# Altium schematic symbol library Xilinx.SchLib: 3 symbols
Pins are listed as number, name and electrical type; pins without a type are passive.

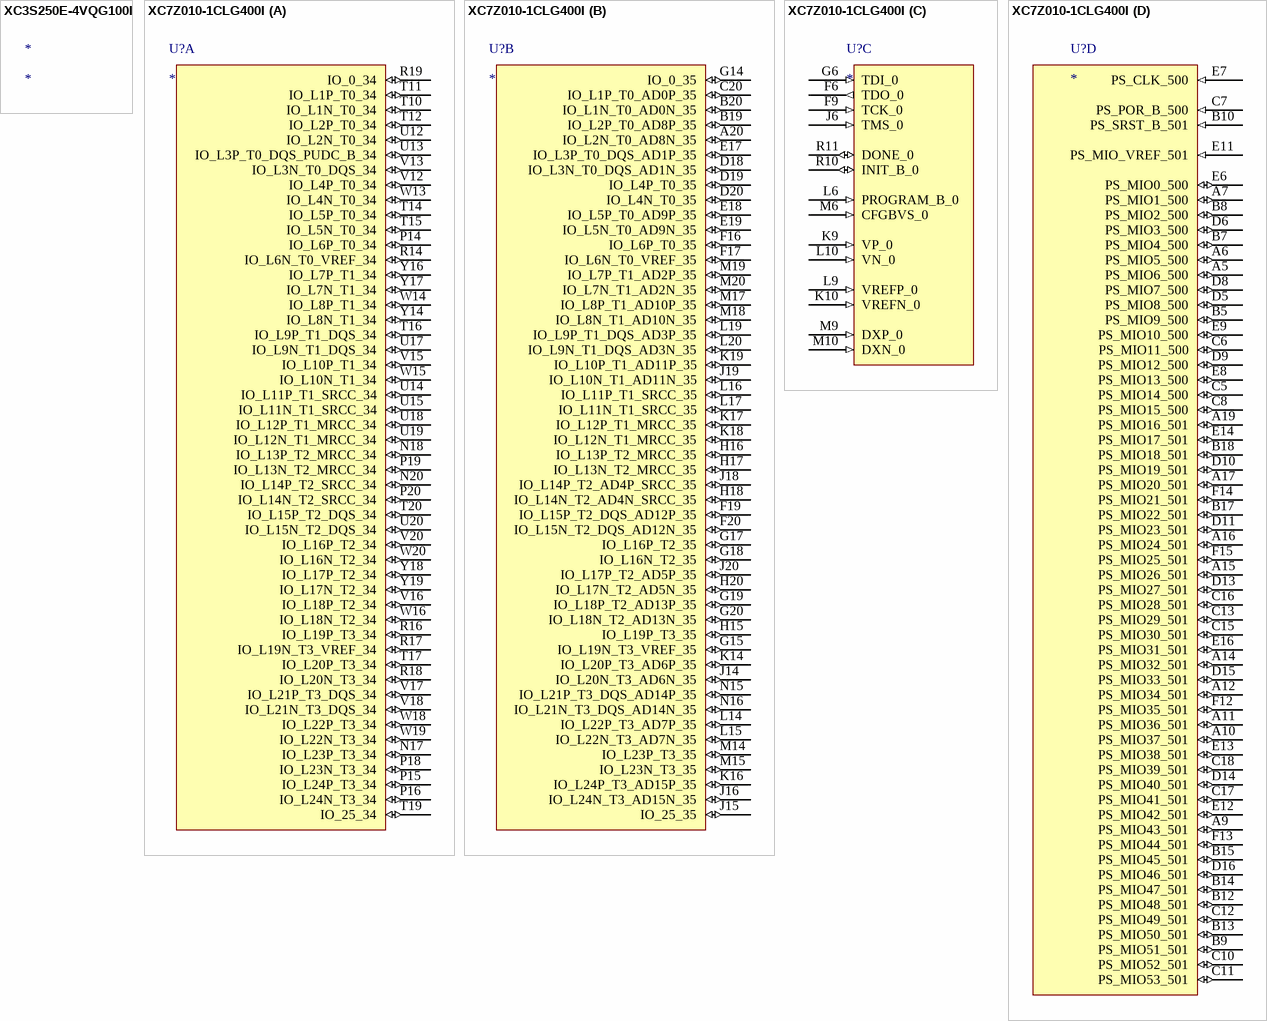
[diagram p0: symbols XC3S250E-4VQG100I to XC7Z010-1CLG400I]

## XC3S250E-4VQG100I
designator *

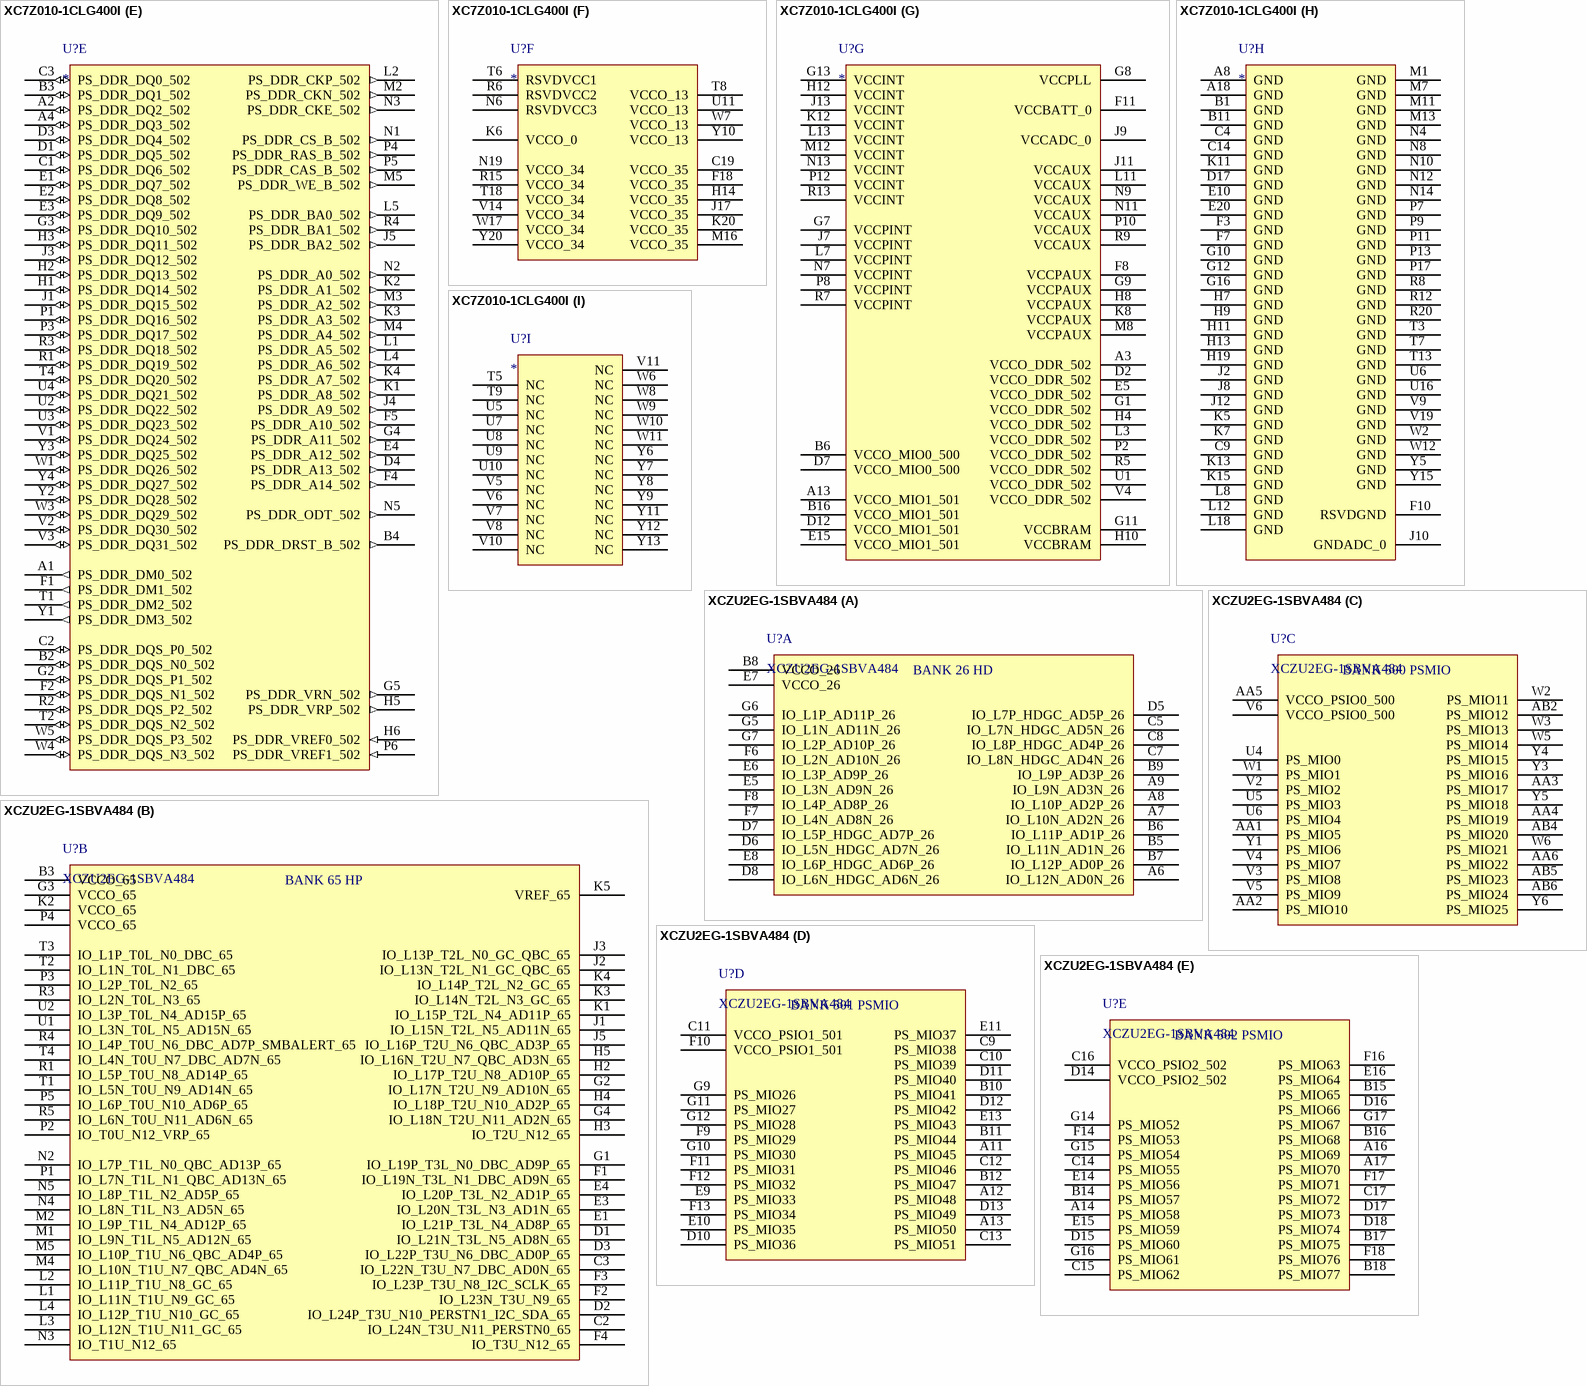
[diagram p1: symbols XC7Z010-1CLG400I to XCZU2EG-1SBVA484]

## XC7Z010-1CLG400I
designator U?
part A pins: N17 IO_L23P_T3_34 (io), N18 IO_L13P_T2_MRCC_34 (io), N20 IO_L14P_T2_SRCC_34 (io), P14 IO_L6P_T0_34 (io), P15 IO_L24P_T3_34 (io), P16 IO_L24N_T3_34 (io), P18 IO_L23N_T3_34 (io), P19 IO_L13N_T2_MRCC_34 (io), P20 IO_L14N_T2_SRCC_34 (io), R14 IO_L6N_T0_VREF_34 (io), R16 IO_L19P_T3_34 (io), R17 IO_L19N_T3_VREF_34 (io), R18 IO_L20N_T3_34 (io), R19 IO_0_34 (io), T10 IO_L1N_T0_34 (io), T11 IO_L1P_T0_34 (io), T12 IO_L2P_T0_34 (io), T14 IO_L5P_T0_34 (io), T15 IO_L5N_T0_34 (io), T16 IO_L9P_T1_DQS_34 (io), T17 IO_L20P_T3_34 (io), T19 IO_25_34 (io), T20 IO_L15P_T2_DQS_34 (io), U12 IO_L2N_T0_34 (io), U13 IO_L3P_T0_DQS_PUDC_B_34 (io), U14 IO_L11P_T1_SRCC_34 (io), U15 IO_L11N_T1_SRCC_34 (io), U17 IO_L9N_T1_DQS_34 (io), U18 IO_L12P_T1_MRCC_34 (io), U19 IO_L12N_T1_MRCC_34 (io), U20 IO_L15N_T2_DQS_34 (io), V12 IO_L4P_T0_34 (io), V13 IO_L3N_T0_DQS_34 (io), V15 IO_L10P_T1_34 (io), V16 IO_L18P_T2_34 (io), V17 IO_L21P_T3_DQS_34 (io), V18 IO_L21N_T3_DQS_34 (io), V20 IO_L16P_T2_34 (io), W13 IO_L4N_T0_34 (io), W14 IO_L8P_T1_34 (io), W15 IO_L10N_T1_34 (io), W16 IO_L18N_T2_34 (io), W18 IO_L22P_T3_34 (io), W19 IO_L22N_T3_34 (io), W20 IO_L16N_T2_34 (io), Y14 IO_L8N_T1_34 (io), Y16 IO_L7P_T1_34 (io), Y17 IO_L7N_T1_34 (io), Y18 IO_L17P_T2_34 (io), Y19 IO_L17N_T2_34 (io)
part B pins: A20 IO_L2N_T0_AD8N_35 (io), B19 IO_L2P_T0_AD8P_35 (io), B20 IO_L1N_T0_AD0N_35 (io), C20 IO_L1P_T0_AD0P_35 (io), D18 IO_L3N_T0_DQS_AD1N_35 (io), D19 IO_L4P_T0_35 (io), D20 IO_L4N_T0_35 (io), E17 IO_L3P_T0_DQS_AD1P_35 (io), E18 IO_L5P_T0_AD9P_35 (io), E19 IO_L5N_T0_AD9N_35 (io), F16 IO_L6P_T0_35 (io), F17 IO_L6N_T0_VREF_35 (io), F19 IO_L15P_T2_DQS_AD12P_35 (io), F20 IO_L15N_T2_DQS_AD12N_35 (io), G14 IO_0_35 (io), G15 IO_L19N_T3_VREF_35 (io), G17 IO_L16P_T2_35 (io), G18 IO_L16N_T2_35 (io), G19 IO_L18P_T2_AD13P_35 (io), G20 IO_L18N_T2_AD13N_35 (io), H15 IO_L19P_T3_35 (io), H16 IO_L13P_T2_MRCC_35 (io), H17 IO_L13N_T2_MRCC_35 (io), H18 IO_L14N_T2_AD4N_SRCC_35 (io), H20 IO_L17N_T2_AD5N_35 (io), J14 IO_L20N_T3_AD6N_35 (io), J15 IO_25_35 (io), J16 IO_L24N_T3_AD15N_35 (io), J18 IO_L14P_T2_AD4P_SRCC_35 (io), J19 IO_L10N_T1_AD11N_35 (io), J20 IO_L17P_T2_AD5P_35 (io), K14 IO_L20P_T3_AD6P_35 (io), K16 IO_L24P_T3_AD15P_35 (io), K17 IO_L12P_T1_MRCC_35 (io), K18 IO_L12N_T1_MRCC_35 (io), K19 IO_L10P_T1_AD11P_35 (io), L14 IO_L22P_T3_AD7P_35 (io), L15 IO_L22N_T3_AD7N_35 (io), L16 IO_L11P_T1_SRCC_35 (io), L17 IO_L11N_T1_SRCC_35 (io), L19 IO_L9P_T1_DQS_AD3P_35 (io), L20 IO_L9N_T1_DQS_AD3N_35 (io), M14 IO_L23P_T3_35 (io), M15 IO_L23N_T3_35 (io), M17 IO_L8P_T1_AD10P_35 (io), M18 IO_L8N_T1_AD10N_35 (io), M19 IO_L7P_T1_AD2P_35 (io), M20 IO_L7N_T1_AD2N_35 (io), N15 IO_L21P_T3_DQS_AD14P_35 (io), N16 IO_L21N_T3_DQS_AD14N_35 (io)
part C pins: F6 TDO_0 (out), F9 TCK_0 (in), G6 TDI_0 (in), J6 TMS_0 (in), K9 VP_0 (in), K10 VREFN_0 (in), L6 PROGRAM_B_0 (in), L9 VREFP_0 (in), L10 VN_0 (in), M6 CFGBVS_0 (in), M9 DXP_0 (in), M10 DXN_0 (in), R10 INIT_B_0 (io), R11 DONE_0 (io)
part D pins: A5 PS_MIO6_500 (io), A6 PS_MIO5_500 (io), A7 PS_MIO1_500 (io), A9 PS_MIO43_501 (io), A10 PS_MIO37_501 (io), A11 PS_MIO36_501 (io), A12 PS_MIO34_501 (io), A14 PS_MIO32_501 (io), A15 PS_MIO26_501 (io), A16 PS_MIO24_501 (io), A17 PS_MIO20_501 (io), A19 PS_MIO16_501 (io), B5 PS_MIO9_500 (io), B7 PS_MIO4_500 (io), B8 PS_MIO2_500 (io), B9 PS_MIO51_501 (io), B10 PS_SRST_B_501 (in), B12 PS_MIO48_501 (io), B13 PS_MIO50_501 (io), B14 PS_MIO47_501 (io), B15 PS_MIO45_501 (io), B17 PS_MIO22_501 (io), B18 PS_MIO18_501 (io), C5 PS_MIO14_500 (io), C6 PS_MIO11_500 (io), C7 PS_POR_B_500 (in), C8 PS_MIO15_500 (io), C10 PS_MIO52_501 (io), C11 PS_MIO53_501 (io), C12 PS_MIO49_501 (io), C13 PS_MIO29_501 (io), C15 PS_MIO30_501 (io), C16 PS_MIO28_501 (io), C17 PS_MIO41_501 (io), C18 PS_MIO39_501 (io), D5 PS_MIO8_500 (io), D6 PS_MIO3_500 (io), D8 PS_MIO7_500 (io), D9 PS_MIO12_500 (io), D10 PS_MIO19_501 (io), D11 PS_MIO23_501 (io), D13 PS_MIO27_501 (io), D14 PS_MIO40_501 (io), D15 PS_MIO33_501 (io), D16 PS_MIO46_501 (io), E6 PS_MIO0_500 (io), E7 PS_CLK_500 (in), E8 PS_MIO13_500 (io), E9 PS_MIO10_500 (io), E11 PS_MIO_VREF_501 (in), E12 PS_MIO42_501 (io), E13 PS_MIO38_501 (io), E14 PS_MIO17_501 (io), E16 PS_MIO31_501 (io), F12 PS_MIO35_501 (io), F13 PS_MIO44_501 (io), F14 PS_MIO21_501 (io), F15 PS_MIO25_501 (io)
part E pins: A1 PS_DDR_DM0_502 (out), A2 PS_DDR_DQ2_502 (io), A4 PS_DDR_DQ3_502 (io), B2 PS_DDR_DQS_N0_502 (io), B3 PS_DDR_DQ1_502 (io), B4 PS_DDR_DRST_B_502 (out), C1 PS_DDR_DQ6_502 (io), C2 PS_DDR_DQS_P0_502 (io), C3 PS_DDR_DQ0_502 (io), D1 PS_DDR_DQ5_502 (io), D3 PS_DDR_DQ4_502 (io), D4 PS_DDR_A13_502 (out), E1 PS_DDR_DQ7_502 (io), E2 PS_DDR_DQ8_502 (io), E3 PS_DDR_DQ9_502 (io), E4 PS_DDR_A12_502 (out), F1 PS_DDR_DM1_502 (out), F2 PS_DDR_DQS_N1_502 (io), F4 PS_DDR_A14_502 (out), F5 PS_DDR_A10_502 (out), G2 PS_DDR_DQS_P1_502 (io), G3 PS_DDR_DQ10_502 (io), G4 PS_DDR_A11_502 (out), G5 PS_DDR_VRN_502 (out), H1 PS_DDR_DQ14_502 (io), H2 PS_DDR_DQ13_502 (io), H3 PS_DDR_DQ11_502 (io), H5 PS_DDR_VRP_502 (out), H6 PS_DDR_VREF0_502 (in), J1 PS_DDR_DQ15_502 (io), J3 PS_DDR_DQ12_502 (io), J4 PS_DDR_A9_502 (out), J5 PS_DDR_BA2_502 (out), K1 PS_DDR_A8_502 (out), K2 PS_DDR_A1_502 (out), K3 PS_DDR_A3_502 (out), K4 PS_DDR_A7_502 (out), L1 PS_DDR_A5_502 (out), L2 PS_DDR_CKP_502 (out), L4 PS_DDR_A6_502 (out), L5 PS_DDR_BA0_502 (out), M2 PS_DDR_CKN_502 (out), M3 PS_DDR_A2_502 (out), M4 PS_DDR_A4_502 (out), M5 PS_DDR_WE_B_502 (out), N1 PS_DDR_CS_B_502 (out), N2 PS_DDR_A0_502 (out), N3 PS_DDR_CKE_502 (out), N5 PS_DDR_ODT_502 (out), P1 PS_DDR_DQ16_502 (io), P3 PS_DDR_DQ17_502 (io), P4 PS_DDR_RAS_B_502 (out), P5 PS_DDR_CAS_B_502 (out), P6 PS_DDR_VREF1_502 (in), R1 PS_DDR_DQ19_502 (io), R2 PS_DDR_DQS_P2_502 (io), R3 PS_DDR_DQ18_502 (io), R4 PS_DDR_BA1_502 (out), T1 PS_DDR_DM2_502 (out), T2 PS_DDR_DQS_N2_502 (io), T4 PS_DDR_DQ20_502 (io), U2 PS_DDR_DQ22_502 (io), U3 PS_DDR_DQ23_502 (io), U4 PS_DDR_DQ21_502 (io), V1 PS_DDR_DQ24_502 (io), V2 PS_DDR_DQ30_502 (io), V3 PS_DDR_DQ31_502 (io), W1 PS_DDR_DQ26_502 (io), W3 PS_DDR_DQ29_502 (io), W4 PS_DDR_DQS_N3_502 (io), W5 PS_DDR_DQS_P3_502 (io), Y1 PS_DDR_DM3_502 (out), Y2 PS_DDR_DQ28_502 (io), Y3 PS_DDR_DQ25_502 (io), Y4 PS_DDR_DQ27_502 (io)
part F pins: C19 VCCO_35, F18 VCCO_35, H14 VCCO_35, J17 VCCO_35, K6 VCCO_0, K20 VCCO_35, M16 VCCO_35, N6 RSVDVCC3, N19 VCCO_34, R6 RSVDVCC2, R15 VCCO_34, T6 RSVDVCC1, T8 VCCO_13, T18 VCCO_34, U11 VCCO_13, V14 VCCO_34, W7 VCCO_13, W17 VCCO_34, Y10 VCCO_13, Y20 VCCO_34
part G pins: A3 VCCO_DDR_502, A13 VCCO_MIO1_501, B6 VCCO_MIO0_500, B16 VCCO_MIO1_501, D2 VCCO_DDR_502, D7 VCCO_MIO0_500, D12 VCCO_MIO1_501, E5 VCCO_DDR_502, E15 VCCO_MIO1_501, F8 VCCPAUX, F11 VCCBATT_0, G1 VCCO_DDR_502, G7 VCCPINT, G8 VCCPLL, G9 VCCPAUX, G11 VCCBRAM, G13 VCCINT, H4 VCCO_DDR_502, H8 VCCPAUX, H10 VCCBRAM, H12 VCCINT, J7 VCCPINT, J9 VCCADC_0, J11 VCCAUX, J13 VCCINT, K8 VCCPAUX, K12 VCCINT, L3 VCCO_DDR_502, L7 VCCPINT, L11 VCCAUX, L13 VCCINT, M8 VCCPAUX, M12 VCCINT, N7 VCCPINT, N9 VCCAUX, N11 VCCAUX, N13 VCCINT, P2 VCCO_DDR_502, P8 VCCPINT, P10 VCCAUX, P12 VCCINT, R5 VCCO_DDR_502, R7 VCCPINT, R9 VCCAUX, R13 VCCINT, U1 VCCO_DDR_502, V4 VCCO_DDR_502
part H pins: A8 GND, A18 GND, B1 GND, B11 GND, C4 GND, C9 GND, C14 GND, D17 GND, E10 GND, E20 GND, F3 GND, F7 GND, F10 RSVDGND, G10 GND, G12 GND, G16 GND, H7 GND, H9 GND, H11 GND, H13 GND, H19 GND, J2 GND, J8 GND, J10 GNDADC_0, J12 GND, K5 GND, K7 GND, K11 GND, K13 GND, K15 GND, L8 GND, L12 GND, L18 GND, M1 GND, M7 GND, M11 GND, M13 GND, N4 GND, N8 GND, N10 GND, N12 GND, N14 GND, P7 GND, P9 GND, P11 GND, P13 GND, P17 GND, R8 GND, R12 GND, R20 GND, T3 GND, T7 GND, T13 GND, U6 GND, U16 GND, V9 GND, V19 GND, W2 GND, W12 GND, Y5 GND, Y15 GND
part I pins: T5 NC, T9 NC, U5 NC, U7 NC, U8 NC, U9 NC, U10 NC, V5 NC, V6 NC, V7 NC, V8 NC, V10 NC, V11 NC, W6 NC, W8 NC, W9 NC, W10 NC, W11 NC, Y6 NC, Y7 NC, Y8 NC, Y9 NC, Y11 NC, Y12 NC, Y13 NC

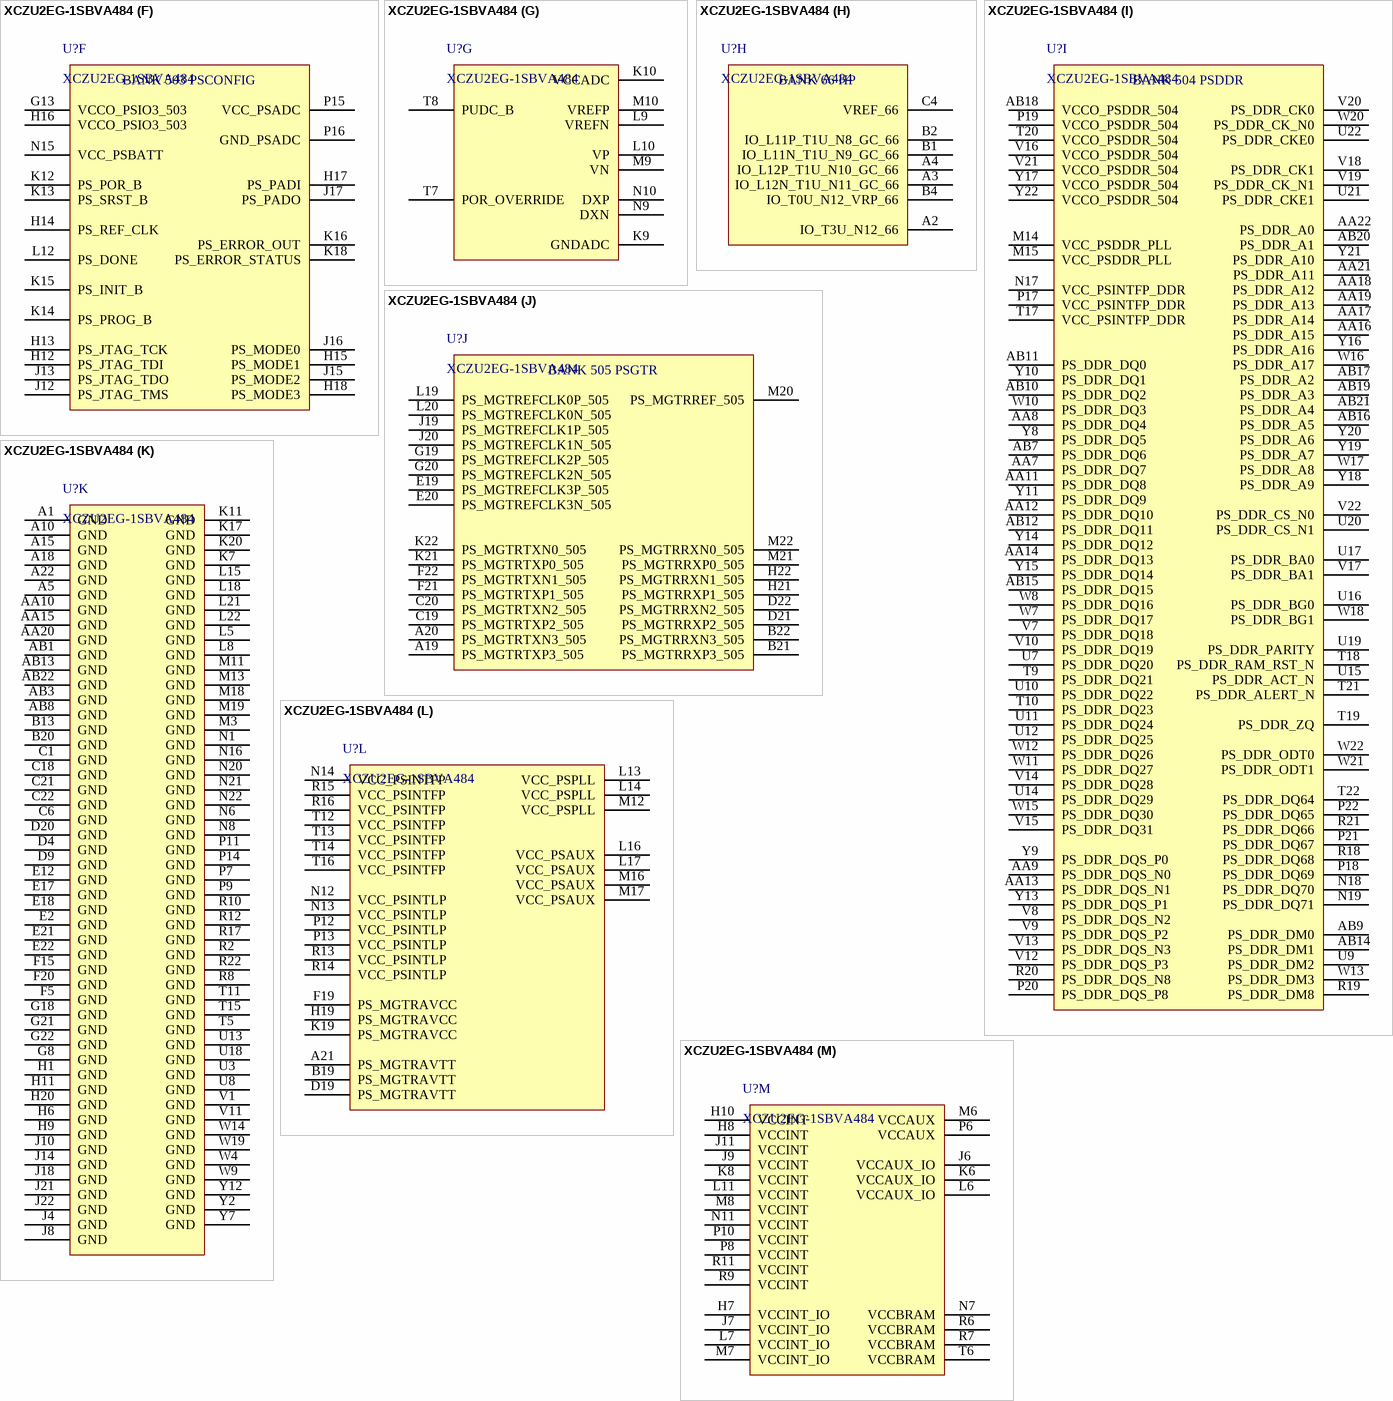
[diagram p2: symbol XCZU2EG-1SBVA484]

## XCZU2EG-1SBVA484
designator U?
part A pins: A6 IO_L12N_AD0N_26, A7 IO_L10N_AD2N_26, A8 IO_L10P_AD2P_26, A9 IO_L9N_AD3N_26, B5 IO_L11N_AD1N_26, B6 IO_L11P_AD1P_26, B7 IO_L12P_AD0P_26, B8 VCCO_26, B9 IO_L9P_AD3P_26, C5 IO_L7N_HDGC_AD5N_26, C7 IO_L8N_HDGC_AD4N_26, C8 IO_L8P_HDGC_AD4P_26, D5 IO_L7P_HDGC_AD5P_26, D6 IO_L5N_HDGC_AD7N_26, D7 IO_L5P_HDGC_AD7P_26, D8 IO_L6N_HDGC_AD6N_26, E5 IO_L3N_AD9N_26, E6 IO_L3P_AD9P_26, E7 VCCO_26, E8 IO_L6P_HDGC_AD6P_26, F6 IO_L2N_AD10N_26, F7 IO_L4N_AD8N_26, F8 IO_L4P_AD8P_26, G5 IO_L1N_AD11N_26, G6 IO_L1P_AD11P_26, G7 IO_L2P_AD10P_26
part B pins: B3 VCCO_65, C2 IO_L24N_T3U_N11_PERSTN0_65, C3 IO_L22N_T3U_N7_DBC_AD0N_65, D1 IO_L21N_T3L_N5_AD8N_65, D2 IO_L24P_T3U_N10_PERSTN1_I2C_SDA_65, D3 IO_L22P_T3U_N6_DBC_AD0P_65, E1 IO_L21P_T3L_N4_AD8P_65, E3 IO_L20N_T3L_N3_AD1N_65, E4 IO_L20P_T3L_N2_AD1P_65, F1 IO_L19N_T3L_N1_DBC_AD9N_65, F2 IO_L23N_T3U_N9_65, F3 IO_L23P_T3U_N8_I2C_SCLK_65, F4 IO_T3U_N12_65, G1 IO_L19P_T3L_N0_DBC_AD9P_65, G2 IO_L17N_T2U_N9_AD10N_65, G3 VCCO_65, G4 IO_L18N_T2U_N11_AD2N_65, H2 IO_L17P_T2U_N8_AD10P_65, H3 IO_T2U_N12_65, H4 IO_L18P_T2U_N10_AD2P_65, H5 IO_L16N_T2U_N7_QBC_AD3N_65, J1 IO_L15N_T2L_N5_AD11N_65, J2 IO_L13N_T2L_N1_GC_QBC_65, J3 IO_L13P_T2L_N0_GC_QBC_65, J5 IO_L16P_T2U_N6_QBC_AD3P_65, K1 IO_L15P_T2L_N4_AD11P_65, K2 VCCO_65, K3 IO_L14N_T2L_N3_GC_65, K4 IO_L14P_T2L_N2_GC_65, K5 VREF_65, L1 IO_L11N_T1U_N9_GC_65, L2 IO_L11P_T1U_N8_GC_65, L3 IO_L12N_T1U_N11_GC_65, L4 IO_L12P_T1U_N10_GC_65, M1 IO_L9N_T1L_N5_AD12N_65, M2 IO_L9P_T1L_N4_AD12P_65, M4 IO_L10N_T1U_N7_QBC_AD4N_65, M5 IO_L10P_T1U_N6_QBC_AD4P_65, N2 IO_L7P_T1L_N0_QBC_AD13P_65, N3 IO_T1U_N12_65, N4 IO_L8N_T1L_N3_AD5N_65, N5 IO_L8P_T1L_N2_AD5P_65, P1 IO_L7N_T1L_N1_QBC_AD13N_65, P2 IO_T0U_N12_VRP_65, P3 IO_L2P_T0L_N2_65, P4 VCCO_65, P5 IO_L6P_T0U_N10_AD6P_65, R1 IO_L5P_T0U_N8_AD14P_65, R3 IO_L2N_T0L_N3_65, R4 IO_L4P_T0U_N6_DBC_AD7P_SMBALERT_65, R5 IO_L6N_T0U_N11_AD6N_65, T1 IO_L5N_T0U_N9_AD14N_65, T2 IO_L1N_T0L_N1_DBC_65, T3 IO_L1P_T0L_N0_DBC_65, T4 IO_L4N_T0U_N7_DBC_AD7N_65, U1 IO_L3N_T0L_N5_AD15N_65, U2 IO_L3P_T0L_N4_AD15P_65
part C pins: AA1 PS_MIO5, AA2 PS_MIO10, AA3 PS_MIO17, AA4 PS_MIO19, AA5 VCCO_PSIO0_500, AA6 PS_MIO22, AB2 PS_MIO12, AB4 PS_MIO20, AB5 PS_MIO23, AB6 PS_MIO24, U4 PS_MIO0, U5 PS_MIO3, U6 PS_MIO4, V2 PS_MIO2, V3 PS_MIO8, V4 PS_MIO7, V5 PS_MIO9, V6 VCCO_PSIO0_500, W1 PS_MIO1, W2 PS_MIO11, W3 PS_MIO13, W5 PS_MIO14, W6 PS_MIO21, Y1 PS_MIO6, Y3 PS_MIO16, Y4 PS_MIO15, Y5 PS_MIO18, Y6 PS_MIO25
part D pins: A11 PS_MIO45, A12 PS_MIO48, A13 PS_MIO50, B10 PS_MIO41, B11 PS_MIO44, B12 PS_MIO47, C9 PS_MIO38, C10 PS_MIO39, C11 VCCO_PSIO1_501, C12 PS_MIO46, C13 PS_MIO51, D10 PS_MIO36, D11 PS_MIO40, D12 PS_MIO42, D13 PS_MIO49, E9 PS_MIO33, E10 PS_MIO35, E11 PS_MIO37, E13 PS_MIO43, F9 PS_MIO29, F10 VCCO_PSIO1_501, F11 PS_MIO31, F12 PS_MIO32, F13 PS_MIO34, G9 PS_MIO26, G10 PS_MIO30, G11 PS_MIO27, G12 PS_MIO28
part E pins: A14 PS_MIO58, A16 PS_MIO69, A17 PS_MIO70, B14 PS_MIO57, B15 PS_MIO65, B16 PS_MIO68, B17 PS_MIO75, B18 PS_MIO77, C14 PS_MIO55, C15 PS_MIO62, C16 VCCO_PSIO2_502, C17 PS_MIO72, D14 VCCO_PSIO2_502, D15 PS_MIO60, D16 PS_MIO66, D17 PS_MIO73, D18 PS_MIO74, E14 PS_MIO56, E15 PS_MIO59, E16 PS_MIO64, F14 PS_MIO53, F16 PS_MIO63, F17 PS_MIO71, F18 PS_MIO76, G14 PS_MIO52, G15 PS_MIO54, G16 PS_MIO61, G17 PS_MIO67
part F pins: G13 VCCO_PSIO3_503, H12 PS_JTAG_TDI, H13 PS_JTAG_TCK, H14 PS_REF_CLK, H15 PS_MODE1, H16 VCCO_PSIO3_503, H17 PS_PADI, H18 PS_MODE3, J12 PS_JTAG_TMS, J13 PS_JTAG_TDO, J15 PS_MODE2, J16 PS_MODE0, J17 PS_PADO, K12 PS_POR_B, K13 PS_SRST_B, K14 PS_PROG_B, K15 PS_INIT_B, K16 PS_ERROR_OUT, K18 PS_ERROR_STATUS, L12 PS_DONE, N15 VCC_PSBATT, P15 VCC_PSADC, P16 GND_PSADC
part G pins: K9 GNDADC, K10 VCCADC, L9 VREFN, L10 VP, M9 VN, M10 VREFP, N9 DXN, N10 DXP, T7 POR_OVERRIDE, T8 PUDC_B
part H pins: A2 IO_T3U_N12_66, A3 IO_L12N_T1U_N11_GC_66, A4 IO_L12P_T1U_N10_GC_66, B1 IO_L11N_T1U_N9_GC_66, B2 IO_L11P_T1U_N8_GC_66, B4 IO_T0U_N12_VRP_66, C4 VREF_66
part I pins: AA7 PS_DDR_DQ7, AA8 PS_DDR_DQ4, AA9 PS_DDR_DQS_N0, AA11 PS_DDR_DQ8, AA12 PS_DDR_DQ10, AA13 PS_DDR_DQS_N1, AA14 PS_DDR_DQ13, AA16 PS_DDR_A15, AA17 PS_DDR_A14, AA18 PS_DDR_A12, AA19 PS_DDR_A13, AA21 PS_DDR_A11, AA22 PS_DDR_A0, AB7 PS_DDR_DQ6, AB9 PS_DDR_DM0, AB10 PS_DDR_DQ2, AB11 PS_DDR_DQ0, AB12 PS_DDR_DQ11, AB14 PS_DDR_DM1, AB15 PS_DDR_DQ15, AB16 PS_DDR_A5, AB17 PS_DDR_A2, AB18 VCCO_PSDDR_504, AB19 PS_DDR_A3, AB20 PS_DDR_A1, AB21 PS_DDR_A4, M14 VCC_PSDDR_PLL, M15 VCC_PSDDR_PLL, N17 VCC_PSINTFP_DDR, N18 PS_DDR_DQ70, N19 PS_DDR_DQ71, P17 VCC_PSINTFP_DDR, P18 PS_DDR_DQ69, P19 VCCO_PSDDR_504, P20 PS_DDR_DQS_P8, P21 PS_DDR_DQ67, P22 PS_DDR_DQ65, R18 PS_DDR_DQ68, R19 PS_DDR_DM8, R20 PS_DDR_DQS_N8, R21 PS_DDR_DQ66, T9 PS_DDR_DQ21, T10 PS_DDR_DQ23, T17 VCC_PSINTFP_DDR, T18 PS_DDR_RAM_RST_N, T19 PS_DDR_ZQ, T20 VCCO_PSDDR_504, T21 PS_DDR_ALERT_N, T22 PS_DDR_DQ64, U7 PS_DDR_DQ20, U9 PS_DDR_DM2, U10 PS_DDR_DQ22, U11 PS_DDR_DQ24, U12 PS_DDR_DQ25, U14 PS_DDR_DQ29, U15 PS_DDR_ACT_N, U16 PS_DDR_BG0, U17 PS_DDR_BA0, U19 PS_DDR_PARITY, U20 PS_DDR_CS_N1, U21 PS_DDR_CKE1, U22 PS_DDR_CKE0, V7 PS_DDR_DQ18, V8 PS_DDR_DQS_N2, V9 PS_DDR_DQS_P2, V10 PS_DDR_DQ19, V12 PS_DDR_DQS_P3, V13 PS_DDR_DQS_N3, V14 PS_DDR_DQ28, V15 PS_DDR_DQ31, V16 VCCO_PSDDR_504, V17 PS_DDR_BA1, V18 PS_DDR_CK1, V19 PS_DDR_CK_N1, V20 PS_DDR_CK0, V21 VCCO_PSDDR_504, V22 PS_DDR_CS_N0, W7 PS_DDR_DQ17, W8 PS_DDR_DQ16, W10 PS_DDR_DQ3, W11 PS_DDR_DQ27, W12 PS_DDR_DQ26, W13 PS_DDR_DM3, W15 PS_DDR_DQ30, W16 PS_DDR_A17, W17 PS_DDR_A8, W18 PS_DDR_BG1, W20 PS_DDR_CK_N0, W21 PS_DDR_ODT1, W22 PS_DDR_ODT0, Y8 PS_DDR_DQ5, Y9 PS_DDR_DQS_P0, Y10 PS_DDR_DQ1, Y11 PS_DDR_DQ9, Y13 PS_DDR_DQS_P1, Y14 PS_DDR_DQ12, Y15 PS_DDR_DQ14, Y16 PS_DDR_A16, Y17 VCCO_PSDDR_504, Y18 PS_DDR_A9, Y19 PS_DDR_A7, Y20 PS_DDR_A6, Y21 PS_DDR_A10, Y22 VCCO_PSDDR_504
part J pins: A19 PS_MGTRTXP3_505, A20 PS_MGTRTXN3_505, B21 PS_MGTRRXP3_505, B22 PS_MGTRRXN3_505, C19 PS_MGTRTXP2_505, C20 PS_MGTRTXN2_505, D21 PS_MGTRRXP2_505, D22 PS_MGTRRXN2_505, E19 PS_MGTREFCLK3P_505, E20 PS_MGTREFCLK3N_505, F21 PS_MGTRTXP1_505, F22 PS_MGTRTXN1_505, G19 PS_MGTREFCLK2P_505, G20 PS_MGTREFCLK2N_505, H21 PS_MGTRRXP1_505, H22 PS_MGTRRXN1_505, J19 PS_MGTREFCLK1P_505, J20 PS_MGTREFCLK1N_505, K21 PS_MGTRTXP0_505, K22 PS_MGTRTXN0_505, L19 PS_MGTREFCLK0P_505, L20 PS_MGTREFCLK0N_505, M20 PS_MGTRREF_505, M21 PS_MGTRRXP0_505, M22 PS_MGTRRXN0_505
part K pins: A1 GND, A5 GND, A10 GND, A15 GND, A18 GND, A22 GND, AA10 GND, AA15 GND, AA20 GND, AB1 GND, AB3 GND, AB8 GND, AB13 GND, AB22 GND, B13 GND, B20 GND, C1 GND, C6 GND, C18 GND, C21 GND, C22 GND, D4 GND, D9 GND, D20 GND, E2 GND, E12 GND, E17 GND, E18 GND, E21 GND, E22 GND, F5 GND, F15 GND, F20 GND, G8 GND, G18 GND, G21 GND, G22 GND, H1 GND, H6 GND, H9 GND, H11 GND, H20 GND, J4 GND, J8 GND, J10 GND, J14 GND, J18 GND, J21 GND, J22 GND, K7 GND, K11 GND, K17 GND, K20 GND, L5 GND, L8 GND, L15 GND, L18 GND, L21 GND, L22 GND, M3 GND, M11 GND, M13 GND, M18 GND, M19 GND, N1 GND, N6 GND, N8 GND, N16 GND, N20 GND, N21 GND, N22 GND, P7 GND, P9 GND, P11 GND, P14 GND, R2 GND, R8 GND, R10 GND, R12 GND, R17 GND, R22 GND, T5 GND, T11 GND, T15 GND, U3 GND, U8 GND, U13 GND, U18 GND, V1 GND, V11 GND, W4 GND, W9 GND, W14 GND, W19 GND, Y2 GND, Y7 GND, Y12 GND
part L pins: A21 PS_MGTRAVTT, B19 PS_MGTRAVTT, D19 PS_MGTRAVTT, F19 PS_MGTRAVCC, H19 PS_MGTRAVCC, K19 PS_MGTRAVCC, L13 VCC_PSPLL, L14 VCC_PSPLL, L16 VCC_PSAUX, L17 VCC_PSAUX, M12 VCC_PSPLL, M16 VCC_PSAUX, M17 VCC_PSAUX, N12 VCC_PSINTLP, N13 VCC_PSINTLP, N14 VCC_PSINTFP, P12 VCC_PSINTLP, P13 VCC_PSINTLP, R13 VCC_PSINTLP, R14 VCC_PSINTLP, R15 VCC_PSINTFP, R16 VCC_PSINTFP, T12 VCC_PSINTFP, T13 VCC_PSINTFP, T14 VCC_PSINTFP, T16 VCC_PSINTFP
part M pins: H7 VCCINT_IO, H8 VCCINT, H10 VCCINT, J6 VCCAUX_IO, J7 VCCINT_IO, J9 VCCINT, J11 VCCINT, K6 VCCAUX_IO, K8 VCCINT, L6 VCCAUX_IO, L7 VCCINT_IO, L11 VCCINT, M6 VCCAUX, M7 VCCINT_IO, M8 VCCINT, N7 VCCBRAM, N11 VCCINT, P6 VCCAUX, P8 VCCINT, P10 VCCINT, R6 VCCBRAM, R7 VCCBRAM, R9 VCCINT, R11 VCCINT, T6 VCCBRAM
part A text: BANK 26 HD
part B text: BANK 65 HP
part C text: BANK 500 PSMIO
part D text: BANK 501 PSMIO
part E text: BANK 502 PSMIO
part F text: BANK 503 PSCONFIG
part H text: BANK 66 HP
part I text: BANK 504 PSDDR
part J text: BANK 505 PSGTR